# Altium footprint library RESAD.PcbLib: 69 footprints (part 1 of 5)
Each footprint in its own frame and in the unit in brackets; x right, y up, seen from the top. Pads: shape width x height; smd on the part's side, far side on the other; paste and mask are expansions set on the pad; w line width, h text height; cw(c..) or ccw(c..) is an arc to the next point about the centre after c.
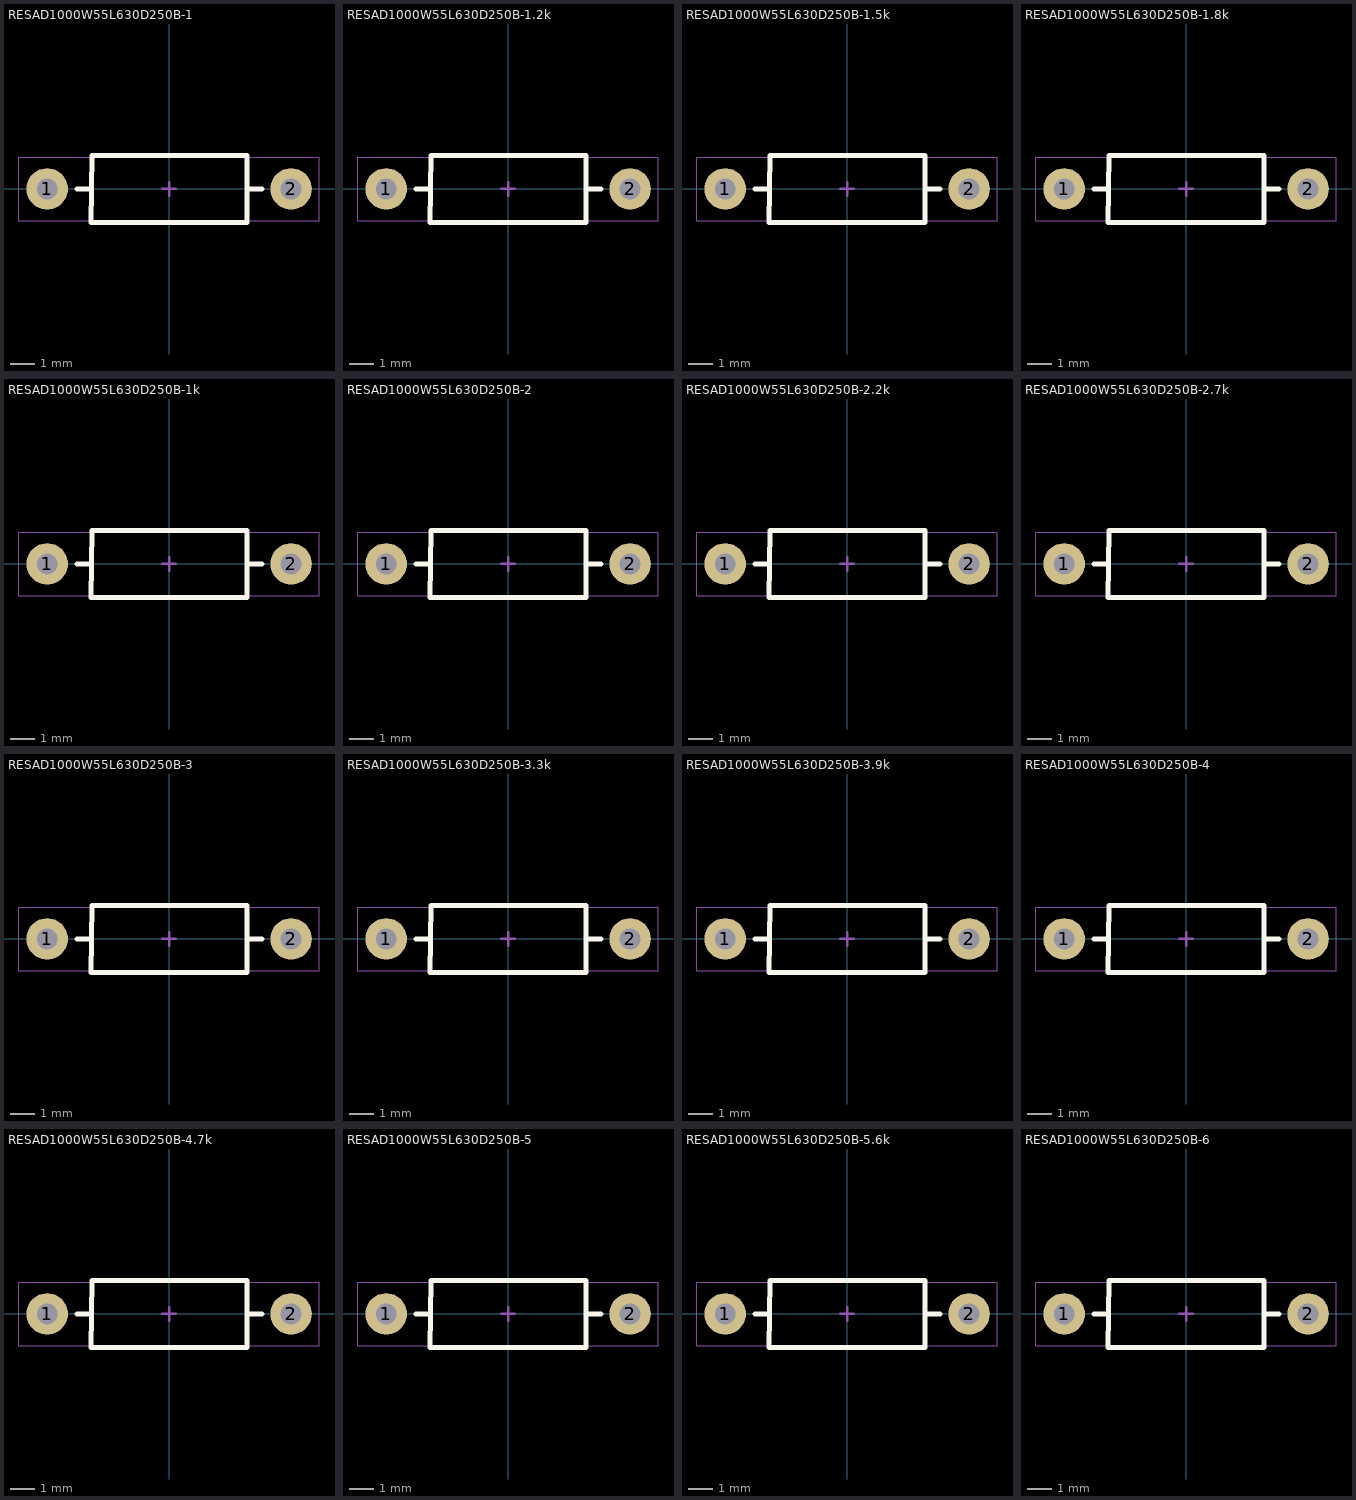
[diagram p0: the footprints below, top view; thin cyan lines are the x and y axes]

## RESAD1000W55L630D250B-1 [mm] "Chip Resistor, 2-Leads, Body 0.60x0.30mm, IPC Low Density"
height 0.26
pads (2):
  round 1.7 hole 0.85: 1(-5,0) 2(5,0)
Top Overlay:
  lines w0.2: -3.783,0 -3.183,0 ; 3.2,0 3.8,0 ; -3.201,-1.379 -3.166,1.372 3.2,1.372 3.2,-1.379 -3.201,-1.379
Top Assembly:
  lines w0.1: -0.275,0 0.275,0 ; 0,-0.275 0,0.275
  text ".Designator" at 1.05,0.017 h0.8
Top Courtyard:
  lines w0.05: -6.156,-1.306 6.145,-1.306 6.145,1.294 -6.156,1.294 -6.156,-1.306
  lines w0.1: -0.165,0 0.165,0 ; 0,-0.165 0,0.165
3D body "RES6.3mm-1.STEP": height 2.5, standoff -1.65, extent -5.269,-1.25 5.279,1.25

## RESAD1000W55L630D250B-1.2k [mm] "Chip Resistor, 2-Leads, Body 0.60x0.30mm, IPC Low Density"
height 0.26
pads (2):
  round 1.7 hole 0.85: 1(-5,0) 2(5,0)
Top Overlay:
  lines w0.2: -3.783,0 -3.183,0 ; 3.2,0 3.8,0 ; -3.201,-1.379 3.2,-1.379 3.2,1.372 -3.166,1.372 -3.201,-1.379
Top Assembly:
  lines w0.1: -0.275,0 0.275,0 ; 0,-0.275 0,0.275
  text ".Designator" at 1.05,0.017 h0.8
Top Courtyard:
  lines w0.05: -6.156,-1.306 6.145,-1.306 6.145,1.294 -6.156,1.294 -6.156,-1.306
  lines w0.1: -0.165,0 0.165,0 ; 0,-0.165 0,0.165
3D body "RES6.3mm-1.2k.STEP": height 2.5, standoff -1.65, extent -5.269,-1.25 5.279,1.25

## RESAD1000W55L630D250B-1.5k [mm] "Chip Resistor, 2-Leads, Body 0.60x0.30mm, IPC Low Density"
height 0.26
pads (2):
  round 1.7 hole 0.85: 1(-5,0) 2(5,0)
Top Overlay:
  lines w0.2: -3.783,0 -3.183,0 ; 3.2,0 3.8,0 ; -3.201,-1.379 -3.166,1.372 3.2,1.372 3.2,-1.379 -3.201,-1.379
Top Assembly:
  lines w0.1: -0.275,0 0.275,0 ; 0,-0.275 0,0.275
  text ".Designator" at 1.05,0.017 h0.8
Top Courtyard:
  lines w0.05: -6.156,-1.306 -6.156,1.294 6.145,1.294 6.145,-1.306 -6.156,-1.306
  lines w0.1: -0.165,0 0.165,0 ; 0,-0.165 0,0.165
3D body "RES6.3mm-1.5k.STEP": height 2.5, standoff -1.65, extent -5.269,-1.25 5.279,1.25

## RESAD1000W55L630D250B-1.8k [mm] "Chip Resistor, 2-Leads, Body 0.60x0.30mm, IPC Low Density"
height 0.26
pads (2):
  round 1.7 hole 0.85: 1(-5,0) 2(5,0)
Top Overlay:
  lines w0.2: -3.783,0 -3.183,0 ; 3.2,0 3.8,0 ; -3.201,-1.379 -3.166,1.372 3.2,1.372 3.2,-1.379 -3.201,-1.379
Top Assembly:
  lines w0.1: -0.275,0 0.275,0 ; 0,-0.275 0,0.275
  text ".Designator" at 1.05,0.017 h0.8
Top Courtyard:
  lines w0.05: -6.156,-1.306 -6.156,1.294 6.145,1.294 6.145,-1.306 -6.156,-1.306
  lines w0.1: -0.165,0 0.165,0 ; 0,-0.165 0,0.165
3D body "RES6.3mm-1.8k.STEP": height 2.5, standoff -1.65, extent -5.269,-1.25 5.279,1.25

## RESAD1000W55L630D250B-1k [mm] "Chip Resistor, 2-Leads, Body 0.60x0.30mm, IPC Low Density"
height 0.26
pads (2):
  round 1.7 hole 0.85: 1(-5,0) 2(5,0)
Top Overlay:
  lines w0.2: -3.783,0 -3.183,0 ; 3.2,0 3.8,0 ; -3.201,-1.379 -3.166,1.372 3.2,1.372 3.2,-1.379 -3.201,-1.379
Top Assembly:
  lines w0.1: -0.275,0 0.275,0 ; 0,-0.275 0,0.275
  text ".Designator" at 1.05,0.017 h0.8
Top Courtyard:
  lines w0.05: -6.156,-1.306 -6.156,1.294 6.145,1.294 6.145,-1.306 -6.156,-1.306
  lines w0.1: -0.165,0 0.165,0 ; 0,-0.165 0,0.165
3D body "RES6.3mm-1k.STEP": height 2.5, standoff -1.65, extent -5.269,-1.25 5.279,1.25

## RESAD1000W55L630D250B-2 [mm] "Chip Resistor, 2-Leads, Body 0.60x0.30mm, IPC Low Density"
height 0.26
pads (2):
  round 1.7 hole 0.85: 1(-5,0) 2(5,0)
Top Overlay:
  lines w0.2: -3.783,0 -3.183,0 ; 3.2,0 3.8,0 ; -3.201,-1.379 -3.166,1.372 3.2,1.372 3.2,-1.379 -3.201,-1.379
Top Assembly:
  lines w0.1: -0.275,0 0.275,0 ; 0,-0.275 0,0.275
  text ".Designator" at 1.05,0.017 h0.8
Top Courtyard:
  lines w0.05: -6.156,-1.306 -6.156,1.294 6.145,1.294 6.145,-1.306 -6.156,-1.306
  lines w0.1: -0.165,0 0.165,0 ; 0,-0.165 0,0.165
3D body "RES6.3mm-2.STEP": height 2.5, standoff -1.65, extent -5.269,-1.25 5.279,1.25

## RESAD1000W55L630D250B-2.2k [mm] "Chip Resistor, 2-Leads, Body 0.60x0.30mm, IPC Low Density"
height 0.26
pads (2):
  round 1.7 hole 0.85: 1(-5,0) 2(5,0)
Top Overlay:
  lines w0.2: -3.783,0 -3.183,0 ; 3.2,0 3.8,0 ; -3.201,-1.379 3.2,-1.379 3.2,1.372 -3.166,1.372 -3.201,-1.379
Top Assembly:
  lines w0.1: -0.275,0 0.275,0 ; 0,-0.275 0,0.275
  text ".Designator" at 1.05,0.017 h0.8
Top Courtyard:
  lines w0.05: -6.156,-1.306 6.145,-1.306 6.145,1.294 -6.156,1.294 -6.156,-1.306
  lines w0.1: -0.165,0 0.165,0 ; 0,-0.165 0,0.165
3D body "RES6.3mm-2.2k.STEP": height 2.5, standoff -1.65, extent -5.269,-1.25 5.279,1.25

## RESAD1000W55L630D250B-2.7k [mm] "Chip Resistor, 2-Leads, Body 0.60x0.30mm, IPC Low Density"
height 0.26
pads (2):
  round 1.7 hole 0.85: 1(-5,0) 2(5,0)
Top Overlay:
  lines w0.2: -3.783,0 -3.183,0 ; 3.2,0 3.8,0 ; -3.201,-1.379 -3.166,1.372 3.2,1.372 3.2,-1.379 -3.201,-1.379
Top Assembly:
  lines w0.1: -0.275,0 0.275,0 ; 0,-0.275 0,0.275
  text ".Designator" at 1.05,0.017 h0.8
Top Courtyard:
  lines w0.05: -6.156,-1.306 -6.156,1.294 6.145,1.294 6.145,-1.306 -6.156,-1.306
  lines w0.1: -0.165,0 0.165,0 ; 0,-0.165 0,0.165
3D body "RES6.3mm-2.7k.STEP": height 2.5, standoff -1.65, extent -5.269,-1.25 5.279,1.25

## RESAD1000W55L630D250B-3 [mm] "Chip Resistor, 2-Leads, Body 0.60x0.30mm, IPC Low Density"
height 0.26
pads (2):
  round 1.7 hole 0.85: 1(-5,0) 2(5,0)
Top Overlay:
  lines w0.2: -3.783,0 -3.183,0 ; 3.2,0 3.8,0 ; -3.201,-1.379 -3.166,1.372 3.2,1.372 3.2,-1.379 -3.201,-1.379
Top Assembly:
  lines w0.1: -0.275,0 0.275,0 ; 0,-0.275 0,0.275
  text ".Designator" at 1.05,0.017 h0.8
Top Courtyard:
  lines w0.05: -6.156,-1.306 -6.156,1.294 6.145,1.294 6.145,-1.306 -6.156,-1.306
  lines w0.1: -0.165,0 0.165,0 ; 0,-0.165 0,0.165
3D body "RES6.3mm-3.STEP": height 2.5, standoff -1.65, extent -5.269,-1.25 5.279,1.25

## RESAD1000W55L630D250B-3.3k [mm] "Chip Resistor, 2-Leads, Body 0.60x0.30mm, IPC Low Density"
height 0.26
pads (2):
  round 1.7 hole 0.85: 1(-5,0) 2(5,0)
Top Overlay:
  lines w0.2: -3.783,0 -3.183,0 ; 3.2,0 3.8,0 ; -3.201,-1.379 3.2,-1.379 3.2,1.372 -3.166,1.372 -3.201,-1.379
Top Assembly:
  lines w0.1: -0.275,0 0.275,0 ; 0,-0.275 0,0.275
  text ".Designator" at 1.05,0.017 h0.8
Top Courtyard:
  lines w0.05: -6.156,-1.306 6.145,-1.306 6.145,1.294 -6.156,1.294 -6.156,-1.306
  lines w0.1: -0.165,0 0.165,0 ; 0,-0.165 0,0.165
3D body "RES6.3mm-3.3k.STEP": height 2.5, standoff -1.65, extent -5.269,-1.25 5.279,1.25

## RESAD1000W55L630D250B-3.9k [mm] "Chip Resistor, 2-Leads, Body 0.60x0.30mm, IPC Low Density"
height 0.26
pads (2):
  round 1.7 hole 0.85: 1(-5,0) 2(5,0)
Top Overlay:
  lines w0.2: -3.783,0 -3.183,0 ; 3.2,0 3.8,0 ; -3.201,-1.379 -3.166,1.372 3.2,1.372 3.2,-1.379 -3.201,-1.379
Top Assembly:
  lines w0.1: -0.275,0 0.275,0 ; 0,-0.275 0,0.275
  text ".Designator" at 1.05,0.017 h0.8
Top Courtyard:
  lines w0.05: -6.156,-1.306 -6.156,1.294 6.145,1.294 6.145,-1.306 -6.156,-1.306
  lines w0.1: -0.165,0 0.165,0 ; 0,-0.165 0,0.165
3D body "RES6.3mm-3.9k.STEP": height 2.5, standoff -1.65, extent -5.269,-1.25 5.279,1.25

## RESAD1000W55L630D250B-4 [mm] "Chip Resistor, 2-Leads, Body 0.60x0.30mm, IPC Low Density"
height 0.26
pads (2):
  round 1.7 hole 0.85: 1(-5,0) 2(5,0)
Top Overlay:
  lines w0.2: -3.783,0 -3.183,0 ; 3.2,0 3.8,0 ; -3.201,-1.379 -3.166,1.372 3.2,1.372 3.2,-1.379 -3.201,-1.379
Top Assembly:
  lines w0.1: -0.275,0 0.275,0 ; 0,-0.275 0,0.275
  text ".Designator" at 1.05,0.017 h0.8
Top Courtyard:
  lines w0.05: -6.156,-1.306 6.145,-1.306 6.145,1.294 -6.156,1.294 -6.156,-1.306
  lines w0.1: -0.165,0 0.165,0 ; 0,-0.165 0,0.165
3D body "RES6.3mm-4.STEP": height 2.5, standoff -1.65, extent -5.269,-1.25 5.279,1.25

## RESAD1000W55L630D250B-4.7k [mm] "Chip Resistor, 2-Leads, Body 0.60x0.30mm, IPC Low Density"
height 0.26
pads (2):
  round 1.7 hole 0.85: 1(-5,0) 2(5,0)
Top Overlay:
  lines w0.2: -3.783,0 -3.183,0 ; 3.2,0 3.8,0 ; -3.201,-1.379 -3.166,1.372 3.2,1.372 3.2,-1.379 -3.201,-1.379
Top Assembly:
  lines w0.1: -0.275,0 0.275,0 ; 0,-0.275 0,0.275
  text ".Designator" at 1.05,0.017 h0.8
Top Courtyard:
  lines w0.05: -6.156,-1.306 -6.156,1.294 6.145,1.294 6.145,-1.306 -6.156,-1.306
  lines w0.1: -0.165,0 0.165,0 ; 0,-0.165 0,0.165
3D body "RES6.3mm-4.7k.STEP": height 2.5, standoff -1.65, extent -5.269,-1.25 5.279,1.25

## RESAD1000W55L630D250B-5 [mm] "Chip Resistor, 2-Leads, Body 0.60x0.30mm, IPC Low Density"
height 0.26
pads (2):
  round 1.7 hole 0.85: 1(-5,0) 2(5,0)
Top Overlay:
  lines w0.2: -3.783,0 -3.183,0 ; 3.2,0 3.8,0 ; -3.201,-1.379 3.2,-1.379 3.2,1.372 -3.166,1.372 -3.201,-1.379
Top Assembly:
  lines w0.1: -0.275,0 0.275,0 ; 0,-0.275 0,0.275
  text ".Designator" at 1.05,0.017 h0.8
Top Courtyard:
  lines w0.05: -6.156,-1.306 6.145,-1.306 6.145,1.294 -6.156,1.294 -6.156,-1.306
  lines w0.1: -0.165,0 0.165,0 ; 0,-0.165 0,0.165
3D body "RES6.3mm-5.STEP": height 2.5, standoff -1.65, extent -5.269,-1.25 5.279,1.25

## RESAD1000W55L630D250B-5.6k [mm] "Chip Resistor, 2-Leads, Body 0.60x0.30mm, IPC Low Density"
height 0.26
pads (2):
  round 1.7 hole 0.85: 1(-5,0) 2(5,0)
Top Overlay:
  lines w0.2: -3.783,0 -3.183,0 ; 3.2,0 3.8,0 ; -3.201,-1.379 -3.166,1.372 3.2,1.372 3.2,-1.379 -3.201,-1.379
Top Assembly:
  lines w0.1: -0.275,0 0.275,0 ; 0,-0.275 0,0.275
  text ".Designator" at 1.05,0.017 h0.8
Top Courtyard:
  lines w0.05: -6.156,-1.306 -6.156,1.294 6.145,1.294 6.145,-1.306 -6.156,-1.306
  lines w0.1: -0.165,0 0.165,0 ; 0,-0.165 0,0.165
3D body "RES6.3mm-5.6k.STEP": height 2.5, standoff -1.65, extent -5.269,-1.25 5.279,1.25

## RESAD1000W55L630D250B-6 [mm] "Chip Resistor, 2-Leads, Body 0.60x0.30mm, IPC Low Density"
height 0.26
pads (2):
  round 1.7 hole 0.85: 1(-5,0) 2(5,0)
Top Overlay:
  lines w0.2: -3.783,0 -3.183,0 ; 3.2,0 3.8,0 ; -3.201,-1.379 3.2,-1.379 3.2,1.372 -3.166,1.372 -3.201,-1.379
Top Assembly:
  lines w0.1: -0.275,0 0.275,0 ; 0,-0.275 0,0.275
  text ".Designator" at 1.05,0.017 h0.8
Top Courtyard:
  lines w0.05: -6.156,-1.306 -6.156,1.294 6.145,1.294 6.145,-1.306 -6.156,-1.306
  lines w0.1: -0.165,0 0.165,0 ; 0,-0.165 0,0.165
3D body "RES6.3mm-6.STEP": height 2.5, standoff -1.65, extent -5.269,-1.25 5.279,1.25